# Altium footprint library CONN-TH_KF2EDGRC-7.5-2P.PcbLib: 1 footprints
Each footprint in its own frame and in the unit in brackets; x right, y up, seen from the top. Pads: shape width x height; smd on the part's side, far side on the other; paste and mask are expansions set on the pad; w line width, h text height; cw(c..) or ccw(c..) is an arc to the next point about the centre after c.
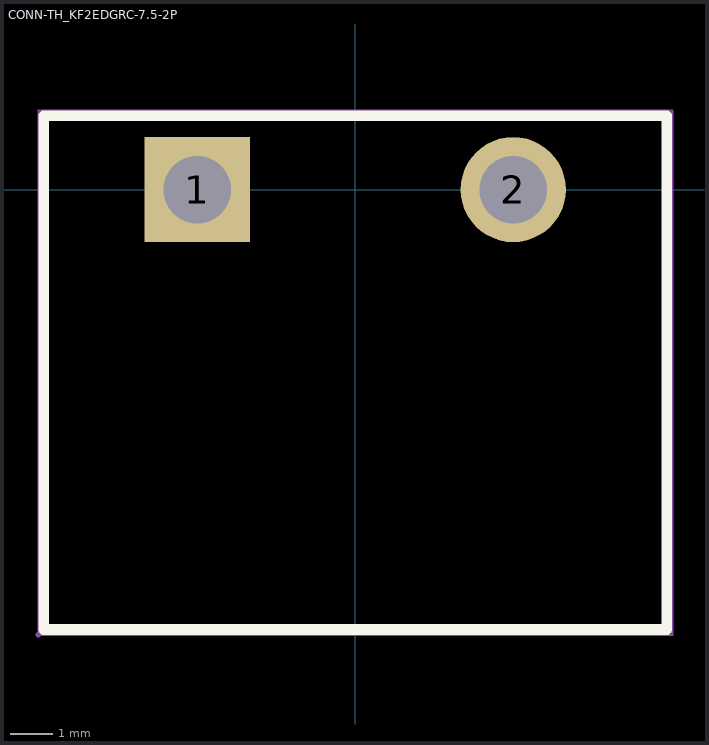
[diagram p0: the footprint, top view; thin cyan lines are the x and y axes]

## CONN-TH_KF2EDGRC-7.5-2P [mm]
pads (2):
  rect 2.5x2.5 hole 1.6: 1(-3.75,0)
  round 2.5 hole 1.6: 2(3.75,0)
Top Overlay:
  lines w0.254: -7.4,-10.45 7.4,-10.45 7.4,1.75 -7.4,1.75 -7.4,-10.45
Mechanical 15:
  region: 4.45,0 4.45,0.092 4.402,0.27 4.31,0.43 4.18,0.56 4.02,0.652 3.842,0.7 3.658,0.7 3.48,0.652 3.32,0.56 3.19,0.43 3.098,0.27 3.05,0.092 3.05,0 3.05,-0.092 3.098,-0.27 3.19,-0.43 3.32,-0.56 3.48,-0.652 3.658,-0.7 3.842,-0.7 4.02,-0.652 4.18,-0.56 4.31,-0.43 4.402,-0.27 4.45,-0.092 4.45,0
  region: -3.05,0 -3.05,0.092 -3.098,0.27 -3.19,0.43 -3.32,0.56 -3.48,0.652 -3.658,0.7 -3.842,0.7 -4.02,0.652 -4.18,0.56 -4.31,0.43 -4.402,0.27 -4.45,0.092 -4.45,0 -4.45,-0.092 -4.402,-0.27 -4.31,-0.43 -4.18,-0.56 -4.02,-0.652 -3.842,-0.7 -3.658,-0.7 -3.48,-0.652 -3.32,-0.56 -3.19,-0.43 -3.098,-0.27 -3.05,-0.092 -3.05,0
  region: -7.467,-10.577 -7.467,-10.552 -7.502,-10.517 -7.552,-10.517 -7.587,-10.552 -7.587,-10.577 -7.587,-10.602 -7.552,-10.637 -7.502,-10.637 -7.467,-10.602 -7.467,-10.577
  lines w0.051: -7.527,-10.577 -7.527,1.877 7.527,1.877 7.527,-10.577 -7.527,-10.577